# Altium schematic symbol library G3MB-202PDC5.SchLib: 1 symbol
Pins are listed as number, name and electrical type; pins without a type are passive.

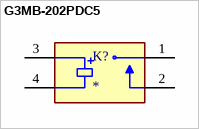
[diagram p0: symbol G3MB-202PDC5]

## G3MB-202PDC5
designator K?
Solid State SPST-NO (1 Form A) 4-SIP; MP: G3MB-202P DC5; MF: Omron Automation; SnapEDA_Link: https://www.snapeda.com/parts/G3MB-202P%20DC5/Omron+Automation+and+Safety/view-part/?ref=snap; Value: *; Availability: Not in stock; Check_prices: https://www.snapeda.com/parts/G3MB-202P%20DC5/Omron+Automation+and+Safety/view-part/?ref=eda; Package: None; Price: None
footprint RELAY_G3MB-202PDC5
pins: 1, 2, 3, 4